# EAGLE library part MAG3110 (library barthess)
3-axis digital (I2C) magnetometer
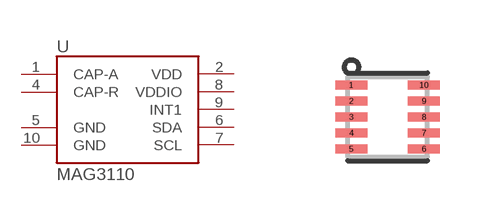
[diagram p12: symbol with the pads of DFN-10; footprint DFN-10]

Designator prefix U

## MAG3110  [DFN-10]
1  CAP-A  in
2  VDD  pwr
4  CAP-R  in
5  GND  pwr
6  SDA  oc
7  SCL  oc
8  VDDIO  pwr
9  INT1  out
10  GND  pwr

## Footprint DFN-10 (pad centres in mm)
10-pin DFN, 2mm x 2mm x 0.85mm
smd 0.8 x 0.22: 1 -0.91,0.8; 2 -0.91,0.4; 3 -0.91,0; 4 -0.91,-0.4; 5 -0.91,-0.8; 6 0.91,-0.8; 7 0.91,-0.4; 8 0.91,0; 9 0.91,0.4; 10 0.91,0.8